# Altium integrated library RK3399.IntLib: 1 symbol
Pins are listed as number, name and electrical type; pins without a type are passive.

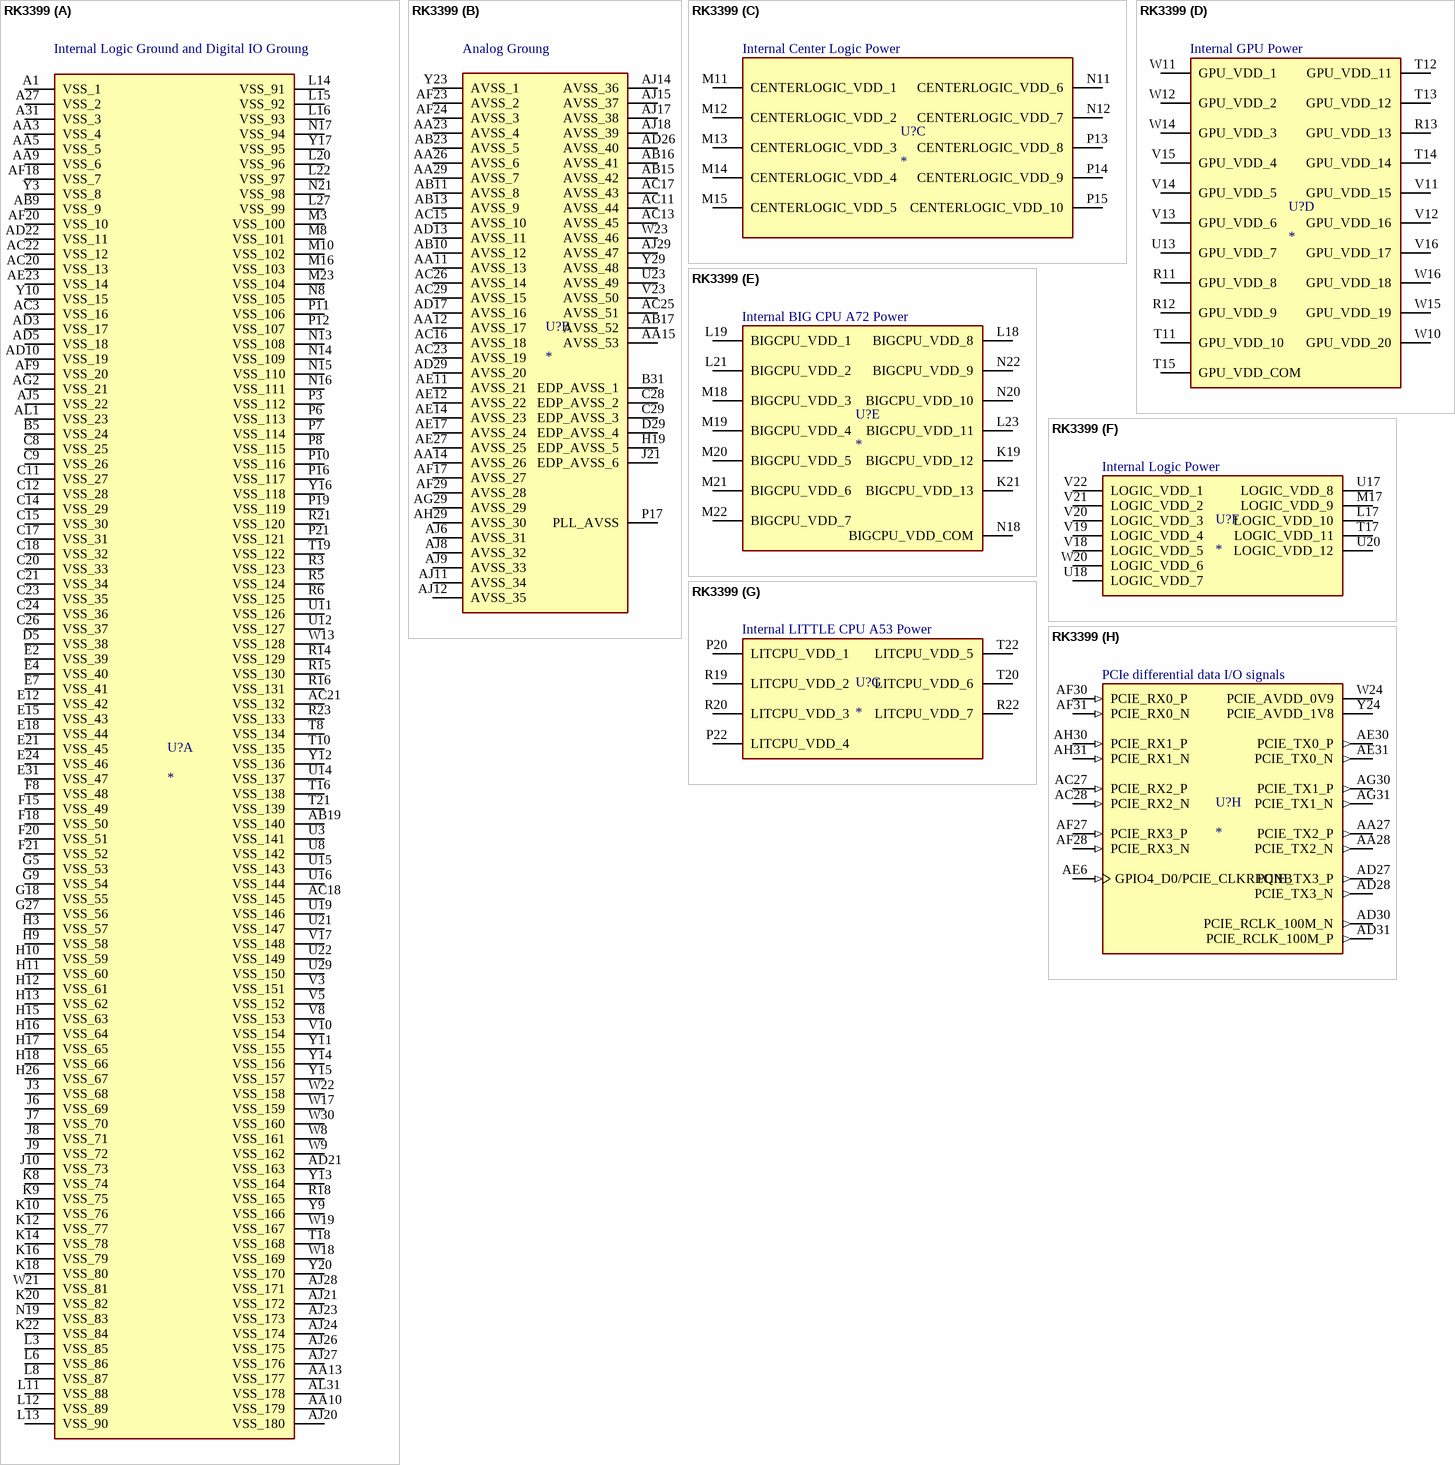
[diagram p0: symbol RK3399]

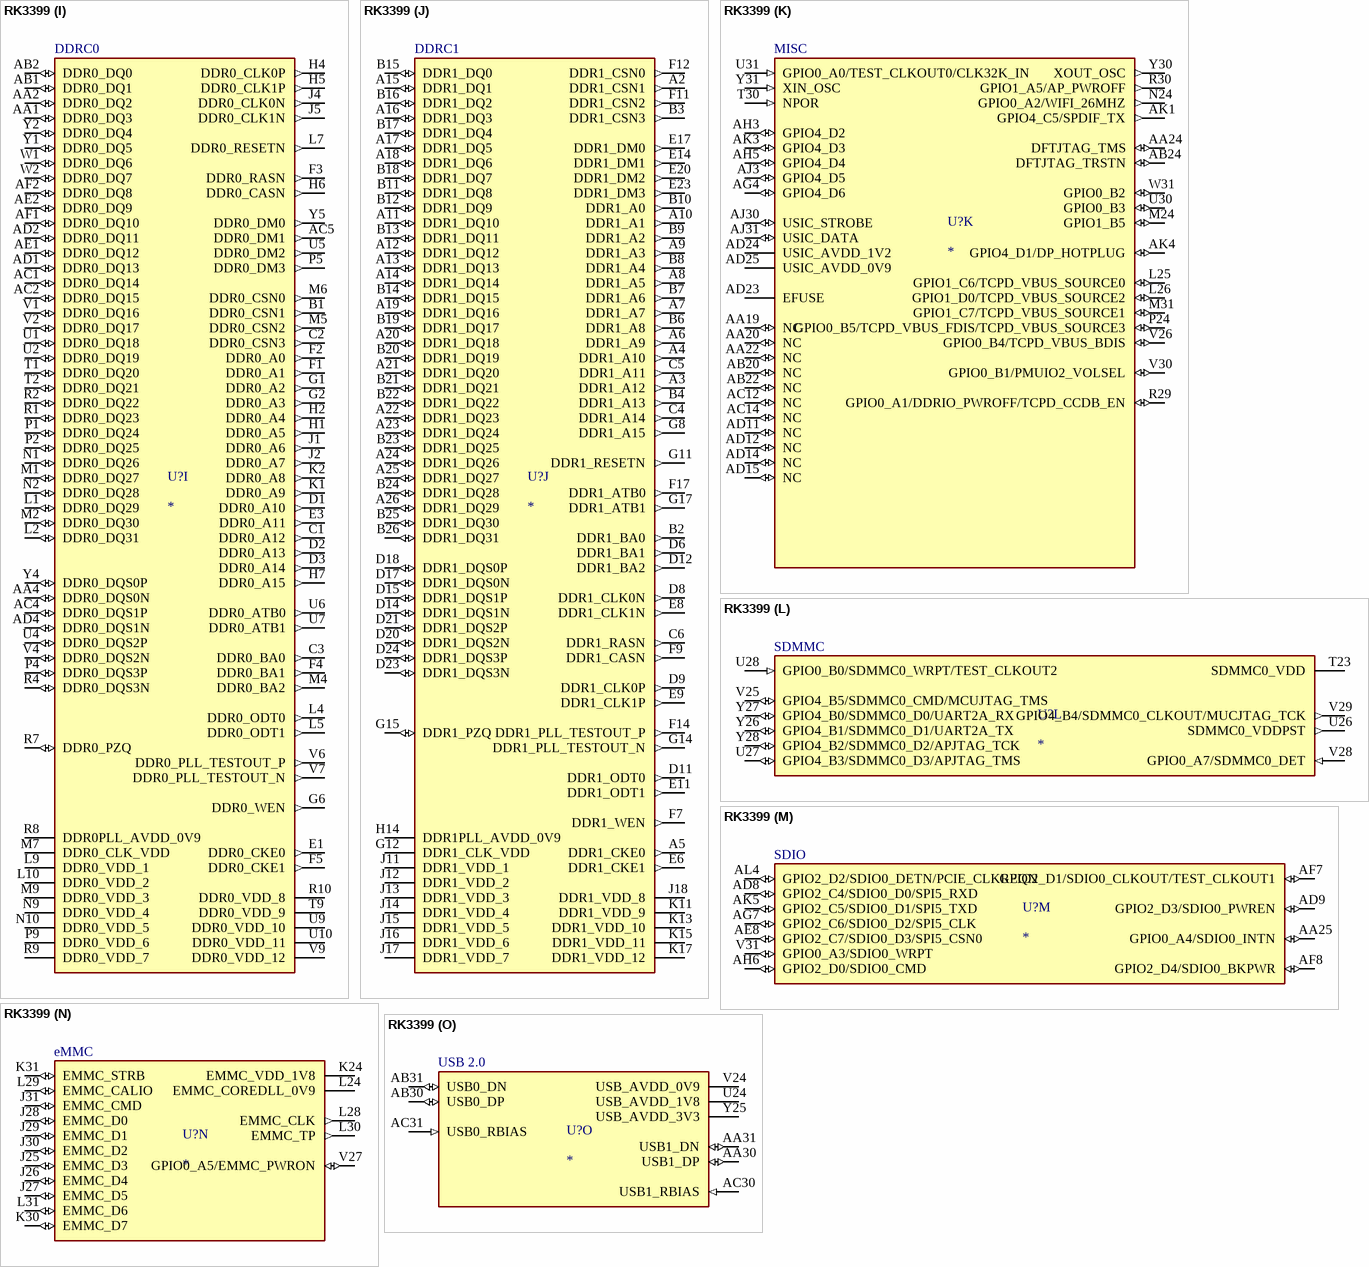
[diagram p1: symbol RK3399]

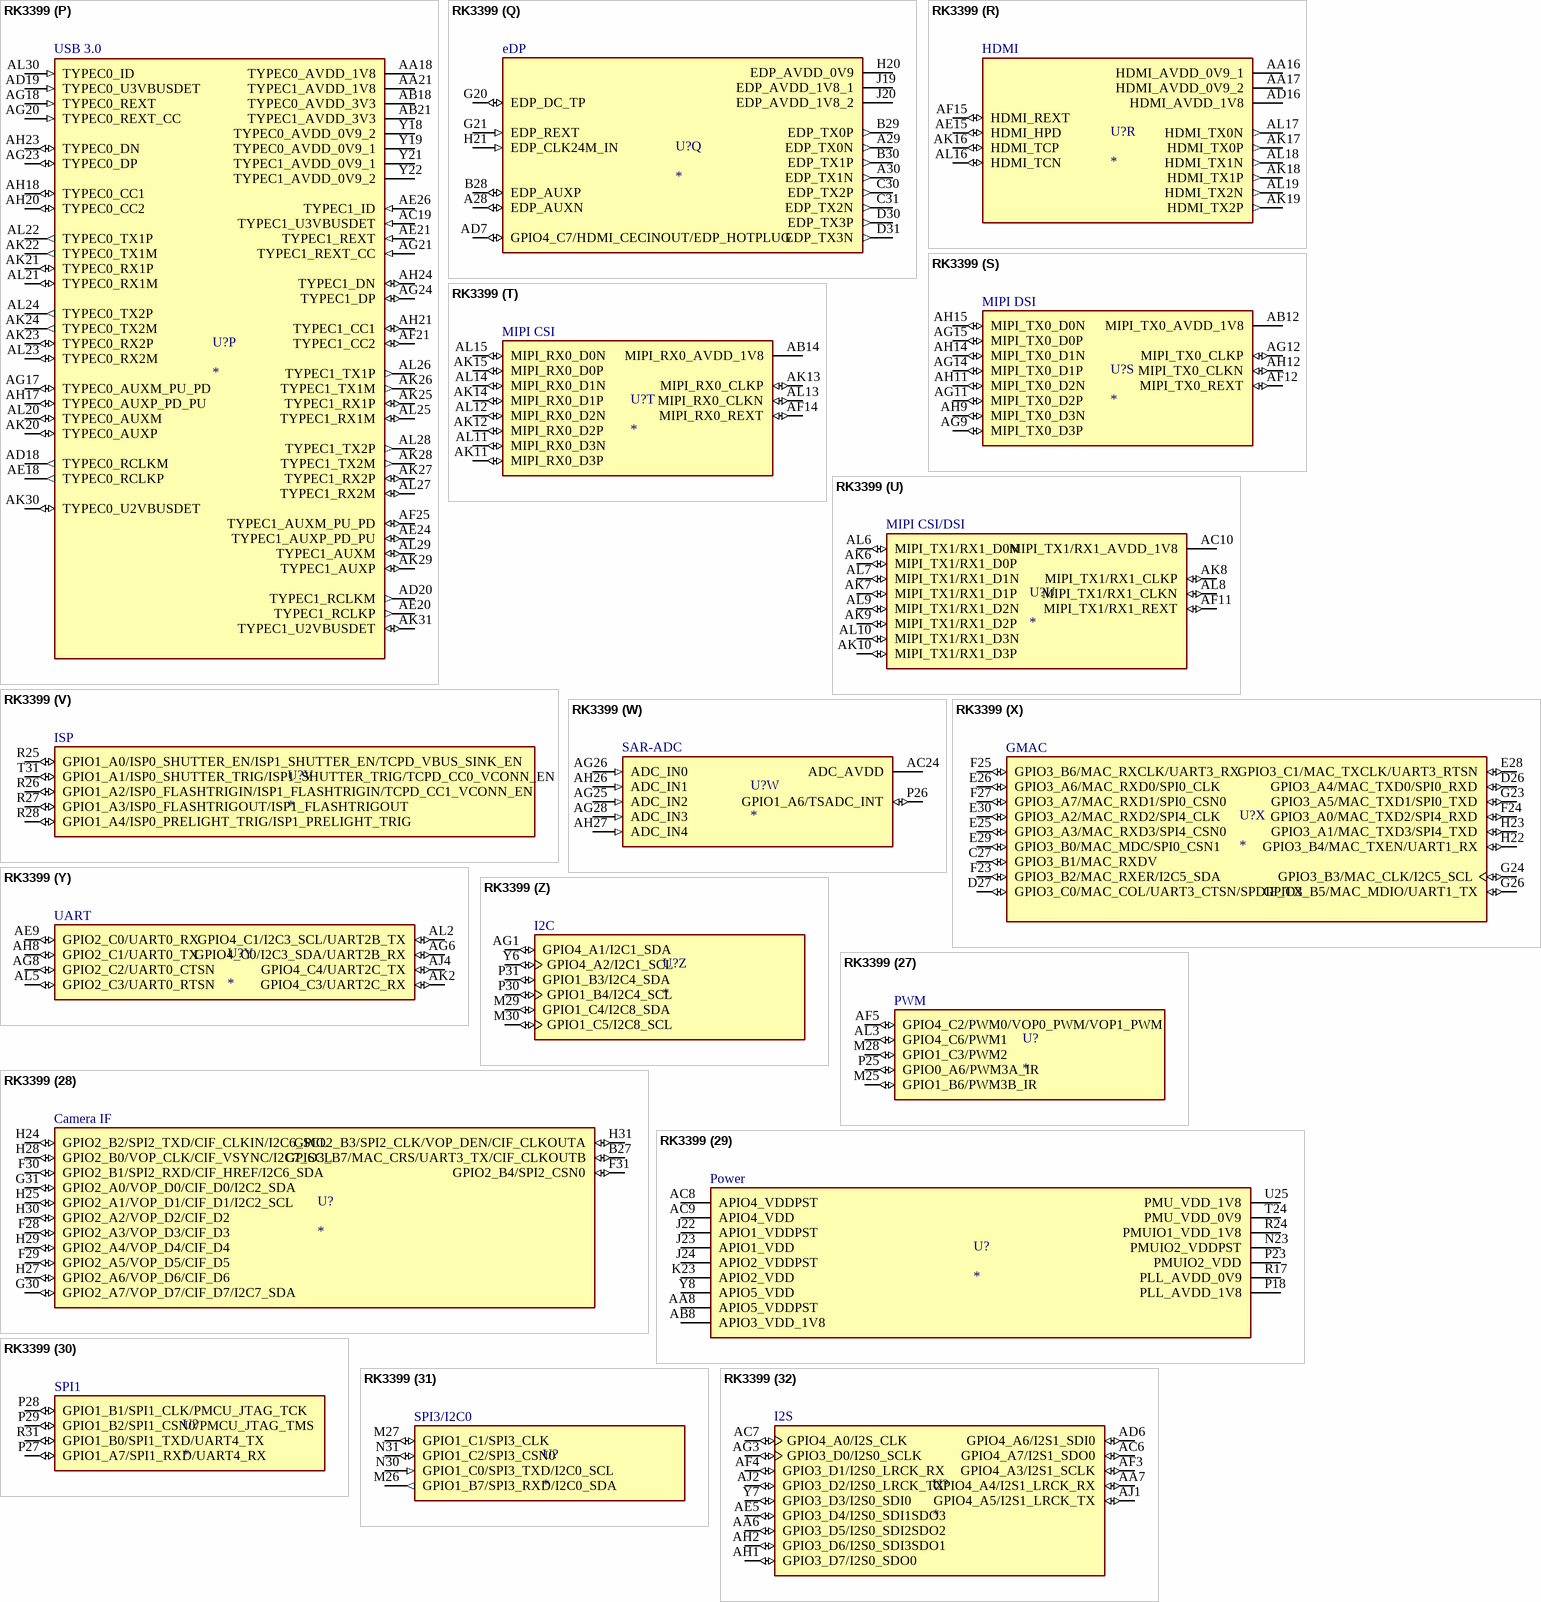
[diagram p2: symbol RK3399]

## RK3399
designator U?
RK3399 ROCK Pi 4 Model A 2GB - ARMÂ® CortexÂ®-A53, CortexÂ®-A72 MPU Embedded Evaluation Board; MF: Rockchip; SnapEDA_Link: https://www.snapeda.com/parts/RK3399/Fuzhou+Rockchip+Electronics+Co/view-part/?ref=snap; Package: Seeed Technology; MP: RK3399; Check_prices: https://www.snapeda.com/parts/RK3399/Fuzhou+Rockchip+Electronics+Co/view-part/?ref=eda; Price: None; Value: *; Availability: Not in stock
footprint BGA828C65P31X31_2100X2100X161N
part A pins: A1 VSS_1 (power), A27 VSS_2 (power), A31 VSS_3 (power), AA3 VSS_4 (power), AA5 VSS_5 (power), AA9 VSS_6 (power), AA10 VSS_179 (power), AA13 VSS_177 (power), AB9 VSS_9 (power), AB19 VSS_140 (power), AC3 VSS_16 (power), AC18 VSS_145 (power), AC20 VSS_13 (power), AC21 VSS_132 (power), AC22 VSS_12 (power), AD3 VSS_17 (power), AD5 VSS_18 (power), AD10 VSS_19 (power), AD21 VSS_163 (power), AD22 VSS_11 (power), AE23 VSS_14 (power), AF9 VSS_20 (power), AF18 VSS_7 (power), AF20 VSS_10 (power), AG2 VSS_21 (power), AJ5 VSS_22 (power), AJ20 VSS_180 (power), AJ21 VSS_172 (power), AJ23 VSS_173 (power), AJ24 VSS_174 (power), AJ26 VSS_175 (power), AJ27 VSS_176 (power), AJ28 VSS_171 (power), AL1 VSS_23 (power), AL31 VSS_178 (power), B5 VSS_24 (power), C8 VSS_25 (power), C9 VSS_26 (power), C11 VSS_27 (power), C12 VSS_28 (power), C14 VSS_29 (power), C15 VSS_30 (power), C17 VSS_31 (power), C18 VSS_32 (power), C20 VSS_33 (power), C21 VSS_34 (power), C23 VSS_35 (power), C24 VSS_36 (power), C26 VSS_37 (power), D5 VSS_38 (power), E2 VSS_39 (power), E4 VSS_40 (power), E7 VSS_41 (power), E12 VSS_42 (power), E15 VSS_43 (power), E18 VSS_44 (power), E21 VSS_45 (power), E24 VSS_46 (power), E31 VSS_47 (power), F8 VSS_48 (power), F15 VSS_49 (power), F18 VSS_50 (power), F20 VSS_51 (power), F21 VSS_52 (power), G5 VSS_53 (power), G9 VSS_54 (power), G18 VSS_55 (power), G27 VSS_56 (power), H3 VSS_57 (power), H9 VSS_58 (power), H10 VSS_59 (power), H11 VSS_60 (power), H12 VSS_61 (power), H13 VSS_62 (power), H15 VSS_63 (power), H16 VSS_64 (power), H17 VSS_65 (power), H18 VSS_66 (power), H26 VSS_67 (power), J3 VSS_68 (power), J6 VSS_69 (power), J7 VSS_70 (power), J8 VSS_71 (power), J9 VSS_72 (power), J10 VSS_73 (power), K8 VSS_74 (power), K9 VSS_75 (power), K10 VSS_76 (power), K12 VSS_77 (power), K14 VSS_78 (power), K16 VSS_79 (power), K18 VSS_80 (power), K20 VSS_82 (power), K22 VSS_84 (power), L3 VSS_85 (power), L6 VSS_86 (power), L8 VSS_87 (power), L11 VSS_88 (power), L12 VSS_89 (power), L13 VSS_90 (power), L14 VSS_91 (power), L15 VSS_92 (power), L16 VSS_93 (power), L20 VSS_96 (power), L22 VSS_97 (power), L27 VSS_99 (power), M3 VSS_100 (power), M8 VSS_101 (power), M10 VSS_102 (power), M16 VSS_103 (power), M23 VSS_104 (power), N8 VSS_105 (power), N13 VSS_108 (power), N14 VSS_109 (power), N15 VSS_110 (power), N16 VSS_111 (power), N17 VSS_94 (power), N19 VSS_83 (power), N21 VSS_98 (power), P3 VSS_112 (power), P6 VSS_113 (power), P7 VSS_114 (power), P8 VSS_115 (power), P10 VSS_116 (power), P11 VSS_106 (power), P12 VSS_107 (power), P16 VSS_117 (power), P19 VSS_119 (power), P21 VSS_121 (power), R3 VSS_123 (power), R5 VSS_124 (power), R6 VSS_125 (power), R14 VSS_129 (power), R15 VSS_130 (power), R16 VSS_131 (power), R18 VSS_165 (power), R21 VSS_120 (power), R23 VSS_133 (power), T8 VSS_134 (power), T10 VSS_135 (power), T16 VSS_138 (power), T18 VSS_168 (power), T19 VSS_122 (power), T21 VSS_139 (power), U3 VSS_141 (power), U8 VSS_142 (power), U11 VSS_126 (power), U12 VSS_127 (power), U14 VSS_137 (power), U15 VSS_143 (power), U16 VSS_144 (power), U19 VSS_146 (power), U21 VSS_147 (power), U22 VSS_149 (power), U29 VSS_150 (power), V3 VSS_151 (power), V5 VSS_152 (power), V8 VSS_153 (power), V10 VSS_154 (power), V17 VSS_148 (power), W8 VSS_161 (power), W9 VSS_162 (power), W13 VSS_128 (power), W17 VSS_159 (power), W18 VSS_169 (power), W19 VSS_167 (power), W21 VSS_81 (power), W22 VSS_158 (power), W30 VSS_160 (power), Y3 VSS_8 (power), Y9 VSS_166 (power), Y10 VSS_15 (power), Y11 VSS_155 (power), Y12 VSS_136 (power), Y13 VSS_164 (power), Y14 VSS_156 (power), Y15 VSS_157 (power), Y16 VSS_118 (power), Y17 VSS_95 (power), Y20 VSS_170 (power)
part B pins: AA11 AVSS_13 (power), AA12 AVSS_17 (power), AA14 AVSS_26 (power), AA15 AVSS_53 (power), AA23 AVSS_4 (power), AA26 AVSS_6 (power), AA29 AVSS_7 (power), AB10 AVSS_12 (power), AB11 AVSS_8 (power), AB13 AVSS_9 (power), AB15 AVSS_42 (power), AB16 AVSS_41 (power), AB17 AVSS_52 (power), AB23 AVSS_5 (power), AC11 AVSS_44 (power), AC13 AVSS_45 (power), AC15 AVSS_10 (power), AC16 AVSS_18 (power), AC17 AVSS_43 (power), AC23 AVSS_19 (power), AC25 AVSS_51 (power), AC26 AVSS_14 (power), AC29 AVSS_15 (power), AD13 AVSS_11 (power), AD17 AVSS_16 (power), AD26 AVSS_40 (power), AD29 AVSS_20 (power), AE11 AVSS_21 (power), AE12 AVSS_22 (power), AE14 AVSS_23 (power), AE17 AVSS_24 (power), AE27 AVSS_25 (power), AF17 AVSS_27 (power), AF23 AVSS_2 (power), AF24 AVSS_3 (power), AF29 AVSS_28 (power), AG29 AVSS_29 (power), AH29 AVSS_30 (power), AJ6 AVSS_31 (power), AJ8 AVSS_32 (power), AJ9 AVSS_33 (power), AJ11 AVSS_34 (power), AJ12 AVSS_35 (power), AJ14 AVSS_36 (power), AJ15 AVSS_37 (power), AJ17 AVSS_38 (power), AJ18 AVSS_39 (power), AJ29 AVSS_47 (power), B31 EDP_AVSS_1 (power), C28 EDP_AVSS_2 (power), C29 EDP_AVSS_3 (power), D29 EDP_AVSS_4 (power), H19 EDP_AVSS_5 (power), J21 EDP_AVSS_6 (power), P17 PLL_AVSS (power), U23 AVSS_49 (power), V23 AVSS_50 (power), W23 AVSS_46 (power), Y23 AVSS_1 (power), Y29 AVSS_48 (power)
part C pins: M11 CENTERLOGIC_VDD_1 (power), M12 CENTERLOGIC_VDD_2 (power), M13 CENTERLOGIC_VDD_3 (power), M14 CENTERLOGIC_VDD_4 (power), M15 CENTERLOGIC_VDD_5 (power), N11 CENTERLOGIC_VDD_6 (power), N12 CENTERLOGIC_VDD_7 (power), P13 CENTERLOGIC_VDD_8 (power), P14 CENTERLOGIC_VDD_9 (power), P15 CENTERLOGIC_VDD_10 (power)
part D pins: R11 GPU_VDD_8 (power), R12 GPU_VDD_9 (power), R13 GPU_VDD_13 (power), T11 GPU_VDD_10 (power), T12 GPU_VDD_11 (power), T13 GPU_VDD_12 (power), T14 GPU_VDD_14 (power), T15 GPU_VDD_COM (power), U13 GPU_VDD_7 (power), V11 GPU_VDD_15 (power), V12 GPU_VDD_16 (power), V13 GPU_VDD_6 (power), V14 GPU_VDD_5 (power), V15 GPU_VDD_4 (power), V16 GPU_VDD_17 (power), W10 GPU_VDD_20 (power), W11 GPU_VDD_1 (power), W12 GPU_VDD_2 (power), W14 GPU_VDD_3 (power), W15 GPU_VDD_19 (power), W16 GPU_VDD_18 (power)
part E pins: K19 BIGCPU_VDD_12 (power), K21 BIGCPU_VDD_13 (power), L18 BIGCPU_VDD_8 (power), L19 BIGCPU_VDD_1 (power), L21 BIGCPU_VDD_2 (power), L23 BIGCPU_VDD_11 (power), M18 BIGCPU_VDD_3 (power), M19 BIGCPU_VDD_4 (power), M20 BIGCPU_VDD_5 (power), M21 BIGCPU_VDD_6 (power), M22 BIGCPU_VDD_7 (power), N18 BIGCPU_VDD_COM (power), N20 BIGCPU_VDD_10 (power), N22 BIGCPU_VDD_9 (power)
part F pins: L17 LOGIC_VDD_10 (power), M17 LOGIC_VDD_9 (power), T17 LOGIC_VDD_11 (power), U17 LOGIC_VDD_8 (power), U18 LOGIC_VDD_7 (power), U20 LOGIC_VDD_12 (power), V18 LOGIC_VDD_5 (power), V19 LOGIC_VDD_4 (power), V20 LOGIC_VDD_3 (power), V21 LOGIC_VDD_2 (power), V22 LOGIC_VDD_1 (power), W20 LOGIC_VDD_6 (power)
part G pins: P20 LITCPU_VDD_1 (power), P22 LITCPU_VDD_4 (power), R19 LITCPU_VDD_2 (power), R20 LITCPU_VDD_3 (power), R22 LITCPU_VDD_7 (power), T20 LITCPU_VDD_6 (power), T22 LITCPU_VDD_5 (power)
part H pins: AA27 PCIE_TX2_P (out), AA28 PCIE_TX2_N (out), AC27 PCIE_RX2_P (in), AC28 PCIE_RX2_N (in), AD27 PCIE_TX3_P (out), AD28 PCIE_TX3_N (out), AD30 PCIE_RCLK_100M_N (out), AD31 PCIE_RCLK_100M_P (out), AE6 GPIO4_D0/PCIE_CLKREQNB (in), AE30 PCIE_TX0_P (out), AE31 PCIE_TX0_N (out), AF27 PCIE_RX3_P (in), AF28 PCIE_RX3_N (in), AF30 PCIE_RX0_P (in), AF31 PCIE_RX0_N (in), AG30 PCIE_TX1_P (out), AG31 PCIE_TX1_N (out), AH30 PCIE_RX1_P (in), AH31 PCIE_RX1_N (in), W24 PCIE_AVDD_0V9 (power), Y24 PCIE_AVDD_1V8 (power)
part I pins: AA1 DDR0_DQ3 (io), AA2 DDR0_DQ2 (io), AA4 DDR0_DQS0N (io), AB1 DDR0_DQ1 (io), AB2 DDR0_DQ0 (io), AC1 DDR0_DQ14 (io), AC2 DDR0_DQ15 (io), AC4 DDR0_DQS1P (io), AC5 DDR0_DM1 (out), AD1 DDR0_DQ13 (io), AD2 DDR0_DQ11 (io), AD4 DDR0_DQS1N (io), AE1 DDR0_DQ12 (io), AE2 DDR0_DQ9 (io), AF1 DDR0_DQ10 (io), AF2 DDR0_DQ8 (io), B1 DDR0_CSN1 (out), C1 DDR0_A12 (out), C2 DDR0_CSN3 (out), C3 DDR0_BA0 (out), D1 DDR0_A10 (out), D2 DDR0_A13 (out), D3 DDR0_A14 (out), E1 DDR0_CKE0 (out), E3 DDR0_A11 (out), F1 DDR0_A1 (out), F2 DDR0_A0 (out), F3 DDR0_RASN (out), F4 DDR0_BA1 (out), F5 DDR0_CKE1 (out), G1 DDR0_A2 (out), G2 DDR0_A3 (out), G6 DDR0_WEN (out), H1 DDR0_A5 (out), H2 DDR0_A4 (out), H4 DDR0_CLK0P (out), H5 DDR0_CLK1P (out), H6 DDR0_CASN (out), H7 DDR0_A15 (out), J1 DDR0_A6 (out), J2 DDR0_A7 (out), J4 DDR0_CLK0N (out), J5 DDR0_CLK1N (out), K1 DDR0_A9 (out), K2 DDR0_A8 (out), L1 DDR0_DQ29 (io), L2 DDR0_DQ31 (io), L4 DDR0_ODT0 (out), L5 DDR0_ODT1 (out), L7 DDR0_RESETN (out), L9 DDR0_VDD_1 (power), L10 DDR0_VDD_2 (power), M1 DDR0_DQ27 (io), M2 DDR0_DQ30 (io), M4 DDR0_BA2 (out), M5 DDR0_CSN2 (out), M6 DDR0_CSN0 (out), M7 DDR0_CLK_VDD (power), M9 DDR0_VDD_3 (power), N1 DDR0_DQ26 (io), N2 DDR0_DQ28 (io), N9 DDR0_VDD_4 (power), N10 DDR0_VDD_5 (power), P1 DDR0_DQ24 (io), P2 DDR0_DQ25 (io), P4 DDR0_DQS3P (io), P5 DDR0_DM3 (out), P9 DDR0_VDD_6 (power), R1 DDR0_DQ23 (io), R2 DDR0_DQ22 (io), R4 DDR0_DQS3N (io), R7 DDR0_PZQ (io), R8 DDR0PLL_AVDD_0V9 (power), R9 DDR0_VDD_7 (power), R10 DDR0_VDD_8 (power), T1 DDR0_DQ20 (io), T2 DDR0_DQ21 (io), T9 DDR0_VDD_9 (power), U1 DDR0_DQ18 (io), U2 DDR0_DQ19 (io), U4 DDR0_DQS2P (io), U5 DDR0_DM2 (out), U6 DDR0_ATB0 (out), U7 DDR0_ATB1 (out), U9 DDR0_VDD_10 (power), U10 DDR0_VDD_11 (power), V1 DDR0_DQ16 (io), V2 DDR0_DQ17 (io), V4 DDR0_DQS2N (io), V6 DDR0_PLL_TESTOUT_P (out), V7 DDR0_PLL_TESTOUT_N (out), V9 DDR0_VDD_12 (power), W1 DDR0_DQ6 (io), W2 DDR0_DQ7 (io), Y1 DDR0_DQ5 (io), Y2 DDR0_DQ4 (io), Y4 DDR0_DQS0P (io), Y5 DDR0_DM0 (out)
part J pins: A2 DDR1_CSN1 (out), A3 DDR1_A12 (out), A4 DDR1_A10 (out), A5 DDR1_CKE0 (out), A6 DDR1_A9 (out), A7 DDR1_A7 (out), A8 DDR1_A5 (out), A9 DDR1_A3 (out), A10 DDR1_A1 (out), A11 DDR1_DQ10 (io), A12 DDR1_DQ12 (io), A13 DDR1_DQ13 (io), A14 DDR1_DQ14 (io), A15 DDR1_DQ1 (io), A16 DDR1_DQ3 (io), A17 DDR1_DQ5 (io), A18 DDR1_DQ6 (io), A19 DDR1_DQ16 (io), A20 DDR1_DQ18 (io), A21 DDR1_DQ20 (io), A22 DDR1_DQ23 (io), A23 DDR1_DQ24 (io), A24 DDR1_DQ26 (io), A25 DDR1_DQ27 (io), A26 DDR1_DQ29 (io), B2 DDR1_BA0 (out), B3 DDR1_CSN3 (out), B4 DDR1_A13 (out), B6 DDR1_A8 (out), B7 DDR1_A6 (out), B8 DDR1_A4 (out), B9 DDR1_A2 (out), B10 DDR1_A0 (out), B11 DDR1_DQ8 (io), B12 DDR1_DQ9 (io), B13 DDR1_DQ11 (io), B14 DDR1_DQ15 (io), B15 DDR1_DQ0 (io), B16 DDR1_DQ2 (io), B17 DDR1_DQ4 (io), B18 DDR1_DQ7 (io), B19 DDR1_DQ17 (io), B20 DDR1_DQ19 (io), B21 DDR1_DQ21 (io), B22 DDR1_DQ22 (io), B23 DDR1_DQ25 (io), B24 DDR1_DQ28 (io), B25 DDR1_DQ30 (io), B26 DDR1_DQ31 (io), C4 DDR1_A14 (out), C5 DDR1_A11 (out), C6 DDR1_RASN (out), D6 DDR1_BA1 (out), D8 DDR1_CLK0N (out), D9 DDR1_CLK0P (out), D11 DDR1_ODT0 (out), D12 DDR1_BA2 (out), D14 DDR1_DQS1N (io), D15 DDR1_DQS1P (io), D17 DDR1_DQS0N (io), D18 DDR1_DQS0P (io), D20 DDR1_DQS2N (io), D21 DDR1_DQS2P (io), D23 DDR1_DQS3N (io), D24 DDR1_DQS3P (io), E6 DDR1_CKE1 (out), E8 DDR1_CLK1N (out), E9 DDR1_CLK1P (out), E11 DDR1_ODT1 (out), E14 DDR1_DM1 (out), E17 DDR1_DM0 (out), E20 DDR1_DM2 (out), E23 DDR1_DM3 (out), F7 DDR1_WEN (out), F9 DDR1_CASN (out), F11 DDR1_CSN2 (out), F12 DDR1_CSN0 (out), F14 DDR1_PLL_TESTOUT_P (out), F17 DDR1_ATB0 (out), G8 DDR1_A15 (out), G11 DDR1_RESETN (out), G12 DDR1_CLK_VDD (power), G14 DDR1_PLL_TESTOUT_N (out), G15 DDR1_PZQ (io), G17 DDR1_ATB1 (out), H14 DDR1PLL_AVDD_0V9 (power), J11 DDR1_VDD_1 (power), J12 DDR1_VDD_2 (power), J13 DDR1_VDD_3 (power), J14 DDR1_VDD_4 (power), J15 DDR1_VDD_5 (power), J16 DDR1_VDD_6 (power), J17 DDR1_VDD_7 (power), J18 DDR1_VDD_8 (power), K11 DDR1_VDD_9 (power), K13 DDR1_VDD_10 (power), K15 DDR1_VDD_11 (power), K17 DDR1_VDD_12 (power)
part K pins: AA19 NC (io), AA20 NC (io), AA22 NC (io), AA24 DFTJTAG_TMS (io), AB20 NC (io), AB22 NC (io), AB24 DFTJTAG_TRSTN (io), AC12 NC (io), AC14 NC (io), AD11 NC (io), AD12 NC (io), AD14 NC (io), AD15 NC (io), AD23 EFUSE, AD24 USIC_AVDD_1V2 (power), AD25 USIC_AVDD_0V9 (power), AG4 GPIO4_D6 (io), AH3 GPIO4_D2 (io), AH5 GPIO4_D4 (io), AJ3 GPIO4_D5 (io), AJ30 USIC_STROBE (io), AJ31 USIC_DATA (io), AK1 GPIO4_C5/SPDIF_TX (out), AK3 GPIO4_D3 (io), AK4 GPIO4_D1/DP_HOTPLUG (io), L25 GPIO1_C6/TCPD_VBUS_SOURCE0 (io), L26 GPIO1_D0/TCPD_VBUS_SOURCE2 (io), M24 GPIO1_B5 (io), M31 GPIO1_C7/TCPD_VBUS_SOURCE1 (io), N24 GPIO0_A2/WIFI_26MHZ (out), P24 GPIO0_B5/TCPD_VBUS_FDIS/TCPD_VBUS_SOURCE3 (io), R29 GPIO0_A1/DDRIO_PWROFF/TCPD_CCDB_EN (io), R30 GPIO1_A5/AP_PWROFF (out), T30 NPOR (in), U30 GPIO0_B3 (io), U31 GPIO0_A0/TEST_CLKOUT0/CLK32K_IN (in), V26 GPIO0_B4/TCPD_VBUS_BDIS (io), V30 GPIO0_B1/PMUIO2_VOLSEL (io), W31 GPIO0_B2 (io), Y30 XOUT_OSC (out), Y31 XIN_OSC (in)
part L pins: T23 SDMMC0_VDD (power), U26 SDMMC0_VDDPST (out), U27 GPIO4_B3/SDMMC0_D3/APJTAG_TMS (io), U28 GPIO0_B0/SDMMC0_WRPT/TEST_CLKOUT2 (in), V25 GPIO4_B5/SDMMC0_CMD/MCUJTAG_TMS (io), V28 GPIO0_A7/SDMMC0_DET (in), V29 GPIO4_B4/SDMMC0_CLKOUT/MUCJTAG_TCK (out), Y26 GPIO4_B1/SDMMC0_D1/UART2A_TX (io), Y27 GPIO4_B0/SDMMC0_D0/UART2A_RX (io), Y28 GPIO4_B2/SDMMC0_D2/APJTAG_TCK (io)
part M pins: AA25 GPIO0_A4/SDIO0_INTN (io), AD8 GPIO2_C4/SDIO0_D0/SPI5_RXD (io), AD9 GPIO2_D3/SDIO0_PWREN (io), AE8 GPIO2_C7/SDIO0_D3/SPI5_CSN0 (io), AF7 GPIO2_D1/SDIO0_CLKOUT/TEST_CLKOUT1 (io), AF8 GPIO2_D4/SDIO0_BKPWR (io), AG7 GPIO2_C6/SDIO0_D2/SPI5_CLK (io), AH6 GPIO2_D0/SDIO0_CMD (io), AK5 GPIO2_C5/SDIO0_D1/SPI5_TXD (io), AL4 GPIO2_D2/SDIO0_DETN/PCIE_CLKREQN (io), V31 GPIO0_A3/SDIO0_WRPT (io)
part N pins: J25 EMMC_D3 (io), J26 EMMC_D4 (io), J27 EMMC_D5 (io), J28 EMMC_D0 (io), J29 EMMC_D1 (io), J30 EMMC_D2 (io), J31 EMMC_CMD (io), K24 EMMC_VDD_1V8 (power), K30 EMMC_D7 (io), K31 EMMC_STRB (io), L24 EMMC_COREDLL_0V9 (power), L28 EMMC_CLK (out), L29 EMMC_CALIO (io), L30 EMMC_TP (out), L31 EMMC_D6 (io), V27 GPIO0_A5/EMMC_PWRON (io)
part O pins: AA30 USB1_DP (io), AA31 USB1_DN (io), AB30 USB0_DP (io), AB31 USB0_DN (io), AC30 USB1_RBIAS (in), AC31 USB0_RBIAS (in), U24 USB_AVDD_1V8 (power), V24 USB_AVDD_0V9 (power), Y25 USB_AVDD_3V3 (power)
part P pins: AA18 TYPEC0_AVDD_1V8 (power), AA21 TYPEC1_AVDD_1V8 (power), AB18 TYPEC0_AVDD_3V3 (power), AB21 TYPEC1_AVDD_3V3 (power), AC19 TYPEC1_U3VBUSDET (in), AD18 TYPEC0_RCLKM (out), AD19 TYPEC0_U3VBUSDET (in), AD20 TYPEC1_RCLKM (out), AE18 TYPEC0_RCLKP (out), AE20 TYPEC1_RCLKP (out), AE21 TYPEC1_REXT (in), AE24 TYPEC1_AUXP_PD_PU (io), AE26 TYPEC1_ID (in), AF21 TYPEC1_CC2 (io), AF25 TYPEC1_AUXM_PU_PD (io), AG17 TYPEC0_AUXM_PU_PD (io), AG18 TYPEC0_REXT (in), AG20 TYPEC0_REXT_CC (in), AG21 TYPEC1_REXT_CC (in), AG23 TYPEC0_DP (io), AG24 TYPEC1_DP (io), AH17 TYPEC0_AUXP_PD_PU (io), AH18 TYPEC0_CC1 (io), AH20 TYPEC0_CC2 (io), AH21 TYPEC1_CC1 (io), AH23 TYPEC0_DN (io), AH24 TYPEC1_DN (io), AK20 TYPEC0_AUXP (io), AK21 TYPEC0_RX1P (io), AK22 TYPEC0_TX1M (out), AK23 TYPEC0_RX2P (io), AK24 TYPEC0_TX2M (out), AK25 TYPEC1_RX1P (io), AK26 TYPEC1_TX1M (out), AK27 TYPEC1_RX2P (io), AK28 TYPEC1_TX2M (out), AK29 TYPEC1_AUXP (io), AK30 TYPEC0_U2VBUSDET (io), AK31 TYPEC1_U2VBUSDET (io), AL20 TYPEC0_AUXM (io), AL21 TYPEC0_RX1M (io), AL22 TYPEC0_TX1P (out), AL23 TYPEC0_RX2M (io), AL24 TYPEC0_TX2P (out), AL25 TYPEC1_RX1M (io), AL26 TYPEC1_TX1P (out), AL27 TYPEC1_RX2M (io), AL28 TYPEC1_TX2P (out), AL29 TYPEC1_AUXM (io), AL30 TYPEC0_ID (in), Y18 TYPEC0_AVDD_0V9_2 (power), Y19 TYPEC0_AVDD_0V9_1 (power), Y21 TYPEC1_AVDD_0V9_1 (power), Y22 TYPEC1_AVDD_0V9_2 (power)
part Q pins: A28 EDP_AUXN (io), A29 EDP_TX0N (out), A30 EDP_TX1N (out), AD7 GPIO4_C7/HDMI_CECINOUT/EDP_HOTPLUG (io), B28 EDP_AUXP (io), B29 EDP_TX0P (out), B30 EDP_TX1P (out), C30 EDP_TX2P (out), C31 EDP_TX2N (out), D30 EDP_TX3P (out), D31 EDP_TX3N (out), G20 EDP_DC_TP (io), G21 EDP_REXT (in), H20 EDP_AVDD_0V9 (power), H21 EDP_CLK24M_IN (in), J19 EDP_AVDD_1V8_1 (power), J20 EDP_AVDD_1V8_2 (power)
part R pins: AA16 HDMI_AVDD_0V9_1 (power), AA17 HDMI_AVDD_0V9_2 (power), AD16 HDMI_AVDD_1V8 (power), AE15 HDMI_HPD (io), AF15 HDMI_REXT (io), AK16 HDMI_TCP (io), AK17 HDMI_TX0P (out), AK18 HDMI_TX1P (out), AK19 HDMI_TX2P (out), AL16 HDMI_TCN (io), AL17 HDMI_TX0N (out), AL18 HDMI_TX1N (out), AL19 HDMI_TX2N (out)
part S pins: AB12 MIPI_TX0_AVDD_1V8 (power), AF12 MIPI_TX0_REXT (io), AG9 MIPI_TX0_D3P (io), AG11 MIPI_TX0_D2P (io), AG12 MIPI_TX0_CLKP (io), AG14 MIPI_TX0_D1P (io), AG15 MIPI_TX0_D0P (io), AH9 MIPI_TX0_D3N (io), AH11 MIPI_TX0_D2N (io), AH12 MIPI_TX0_CLKN (io), AH14 MIPI_TX0_D1N (io), AH15 MIPI_TX0_D0N (io)
part T pins: AB14 MIPI_RX0_AVDD_1V8 (power), AF14 MIPI_RX0_REXT (io), AK11 MIPI_RX0_D3P (io), AK12 MIPI_RX0_D2P (io), AK13 MIPI_RX0_CLKP (io), AK14 MIPI_RX0_D1P (io), AK15 MIPI_RX0_D0P (io), AL11 MIPI_RX0_D3N (io), AL12 MIPI_RX0_D2N (io), AL13 MIPI_RX0_CLKN (io), AL14 MIPI_RX0_D1N (io), AL15 MIPI_RX0_D0N (io)
part U pins: AC10 MIPI_TX1/RX1_AVDD_1V8 (power), AF11 MIPI_TX1/RX1_REXT (io), AK6 MIPI_TX1/RX1_D0P (io), AK7 MIPI_TX1/RX1_D1P (io), AK8 MIPI_TX1/RX1_CLKP (io), AK9 MIPI_TX1/RX1_D2P (io), AK10 MIPI_TX1/RX1_D3P (io), AL6 MIPI_TX1/RX1_D0N (io), AL7 MIPI_TX1/RX1_D1N (io), AL8 MIPI_TX1/RX1_CLKN (io), AL9 MIPI_TX1/RX1_D2N (io), AL10 MIPI_TX1/RX1_D3N (io)
part V pins: R25 GPIO1_A0/ISP0_SHUTTER_EN/ISP1_SHUTTER_EN/TCPD_VBUS_SINK_EN (io), R26 GPIO1_A2/ISP0_FLASHTRIGIN/ISP1_FLASHTRIGIN/TCPD_CC1_VCONN_EN (io), R27 GPIO1_A3/ISP0_FLASHTRIGOUT/ISP1_FLASHTRIGOUT (io), R28 GPIO1_A4/ISP0_PRELIGHT_TRIG/ISP1_PRELIGHT_TRIG (io), T31 GPIO1_A1/ISP0_SHUTTER_TRIG/ISP1_SHUTTER_TRIG/TCPD_CC0_VCONN_EN (io)
part W pins: AC24 ADC_AVDD (power), AG25 ADC_IN2 (in), AG26 ADC_IN0 (in), AG28 ADC_IN3 (in), AH26 ADC_IN1 (in), AH27 ADC_IN4 (in), P26 GPIO1_A6/TSADC_INT (io)
part X pins: C27 GPIO3_B1/MAC_RXDV (io), D26 GPIO3_A4/MAC_TXD0/SPI0_RXD (io), D27 GPIO3_C0/MAC_COL/UART3_CTSN/SPDIF_TX (io), E25 GPIO3_A3/MAC_RXD3/SPI4_CSN0 (io), E26 GPIO3_A6/MAC_RXD0/SPI0_CLK (io), E28 GPIO3_C1/MAC_TXCLK/UART3_RTSN (io), E29 GPIO3_B0/MAC_MDC/SPI0_CSN1 (io), E30 GPIO3_A2/MAC_RXD2/SPI4_CLK (io), F23 GPIO3_B2/MAC_RXER/I2C5_SDA (io), F24 GPIO3_A0/MAC_TXD2/SPI4_RXD (io), F25 GPIO3_B6/MAC_RXCLK/UART3_RX (io), F27 GPIO3_A7/MAC_RXD1/SPI0_CSN0 (io), G23 GPIO3_A5/MAC_TXD1/SPI0_TXD (io), G24 GPIO3_B3/MAC_CLK/I2C5_SCL (io), G26 GPIO3_B5/MAC_MDIO/UART1_TX (io), H22 GPIO3_B4/MAC_TXEN/UART1_RX (io), H23 GPIO3_A1/MAC_TXD3/SPI4_TXD (io)
part Y pins: AE9 GPIO2_C0/UART0_RX (io), AG6 GPIO4_C0/I2C3_SDA/UART2B_RX (io), AG8 GPIO2_C2/UART0_CTSN (io), AH8 GPIO2_C1/UART0_TX (io), AJ4 GPIO4_C4/UART2C_TX (io), AK2 GPIO4_C3/UART2C_RX (io), AL2 GPIO4_C1/I2C3_SCL/UART2B_TX (io), AL5 GPIO2_C3/UART0_RTSN (io)
part Z pins: AG1 GPIO4_A1/I2C1_SDA (io), M29 GPIO1_C4/I2C8_SDA (io), M30 GPIO1_C5/I2C8_SCL (io), P30 GPIO1_B4/I2C4_SCL (io), P31 GPIO1_B3/I2C4_SDA (io), Y6 GPIO4_A2/I2C1_SCL (io)
part 27 pins: AF5 GPIO4_C2/PWM0/VOP0_PWM/VOP1_PWM (io), AL3 GPIO4_C6/PWM1 (io), M25 GPIO1_B6/PWM3B_IR (io), M28 GPIO1_C3/PWM2 (io), P25 GPIO0_A6/PWM3A_IR (io)
part 28 pins: B27 GPIO3_B7/MAC_CRS/UART3_TX/CIF_CLKOUTB (io), F28 GPIO2_A3/VOP_D3/CIF_D3 (io), F29 GPIO2_A5/VOP_D5/CIF_D5 (io), F30 GPIO2_B1/SPI2_RXD/CIF_HREF/I2C6_SDA (io), F31 GPIO2_B4/SPI2_CSN0 (io), G30 GPIO2_A7/VOP_D7/CIF_D7/I2C7_SDA (io), G31 GPIO2_A0/VOP_D0/CIF_D0/I2C2_SDA (io), H24 GPIO2_B2/SPI2_TXD/CIF_CLKIN/I2C6_SCL (io), H25 GPIO2_A1/VOP_D1/CIF_D1/I2C2_SCL (io), H27 GPIO2_A6/VOP_D6/CIF_D6 (io), H28 GPIO2_B0/VOP_CLK/CIF_VSYNC/I2C7_SCL (io), H29 GPIO2_A4/VOP_D4/CIF_D4 (io), H30 GPIO2_A2/VOP_D2/CIF_D2 (io), H31 GPIO2_B3/SPI2_CLK/VOP_DEN/CIF_CLKOUTA (io)
part 29 pins: AA8 APIO5_VDDPST (power), AB8 APIO3_VDD_1V8 (power), AC8 APIO4_VDDPST (power), AC9 APIO4_VDD (power), J22 APIO1_VDDPST (power), J23 APIO1_VDD (power), J24 APIO2_VDDPST (power), K23 APIO2_VDD (power), N23 PMUIO2_VDDPST (power), P18 PLL_AVDD_1V8 (power), P23 PMUIO2_VDD (power), R17 PLL_AVDD_0V9 (power), R24 PMUIO1_VDD_1V8 (power), T24 PMU_VDD_0V9 (power), U25 PMU_VDD_1V8 (power), Y8 APIO5_VDD (power)
part 30 pins: P27 GPIO1_A7/SPI1_RXD/UART4_RX (io), P28 GPIO1_B1/SPI1_CLK/PMCU_JTAG_TCK (io), P29 GPIO1_B2/SPI1_CSN0/PMCU_JTAG_TMS (io), R31 GPIO1_B0/SPI1_TXD/UART4_TX (io)
part 31 pins: M26 GPIO1_B7/SPI3_RXD/I2C0_SDA (out), M27 GPIO1_C1/SPI3_CLK (io), N30 GPIO1_C0/SPI3_TXD/I2C0_SCL (in), N31 GPIO1_C2/SPI3_CSN0 (io)
part 32 pins: AA6 GPIO3_D5/I2S0_SDI2SDO2 (io), AA7 GPIO4_A4/I2S1_LRCK_RX (io), AC6 GPIO4_A7/I2S1_SDO0 (io), AC7 GPIO4_A0/I2S_CLK (io), AD6 GPIO4_A6/I2S1_SDI0 (io), AE5 GPIO3_D4/I2S0_SDI1SDO3 (io), AF3 GPIO4_A3/I2S1_SCLK (io), AF4 GPIO3_D1/I2S0_LRCK_RX (io), AG3 GPIO3_D0/I2S0_SCLK (io), AH1 GPIO3_D7/I2S0_SDO0 (io), AH2 GPIO3_D6/I2S0_SDI3SDO1 (io), AJ1 GPIO4_A5/I2S1_LRCK_TX (io), AJ2 GPIO3_D2/I2S0_LRCK_TX (io), Y7 GPIO3_D3/I2S0_SDI0 (io)
part A text: Internal Logic Ground and Digital IO Groung
part B text: Analog Groung
part C text: Internal Center Logic Power
part D text: Internal GPU Power
part E text: Internal BIG CPU A72 Power
part F text: Internal Logic Power
part G text: Internal LITTLE CPU A53 Power
part H text: PCIe differential data I/O signals
part I text: DDRC0
part J text: DDRC1
part K text: MISC
part L text: SDMMC
part M text: SDIO
part N text: eMMC
part O text: USB 2.0
part P text: USB 3.0
part Q text: eDP
part R text: HDMI
part S text: MIPI DSI
part T text: MIPI CSI
part U text: MIPI CSI/DSI
part V text: ISP
part W text: SAR-ADC
part X text: GMAC
part Y text: UART
part Z text: I2C
part 27 text: PWM
part 28 text: Camera IF
part 29 text: Power
part 30 text: SPI1
part 31 text: SPI3/I2C0
part 32 text: I2S